# EAGLE library part 1X6-JTAG (library JLB6_Connec)
Connecteur JTAG 1.27mm
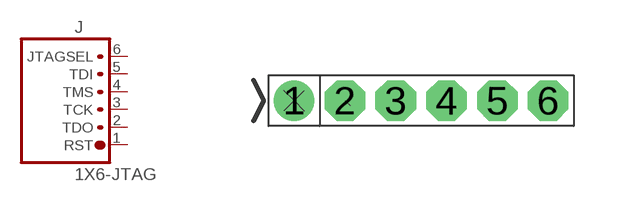
[diagram p42: symbol with the pads of 1X6-127OCT; footprint 1X6-127OCT]

Designator prefix J

## 1X6-JTAG  [1X6-127OCT]
1  RST  pas
2  TDO  pas
3  TCK  pas
4  TMS  pas
5  TDI  pas
6  JTAGSEL  pas

## Footprint 1X6-127OCT (pad centres in mm)
drill 0.5 pad 1.016: 1 -3.175,0
drill 0.5 pad 1.016 octagon: 2 -1.905,0; 3 -0.635,0; 4 0.635,0; 5 1.905,0; 6 3.175,0